# EAGLE library part CL-SB-23A-01 (library switches)
SWITCH SLIDE DP3T 0.2A JLEAD
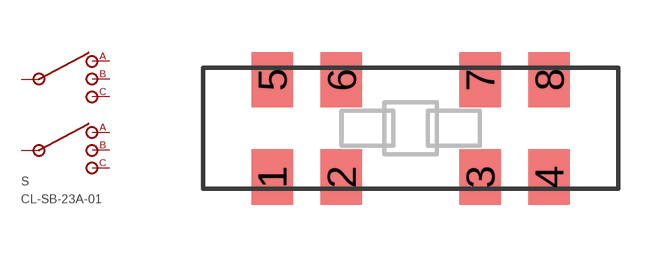
[diagram p1: symbol with the pads of CL-SB-23A; footprint CL-SB-23A]

Designator prefix S

## CL-SB-23A-01 (DIGIKEY: 563-1350-1-ND)  [CL-SB-23A]
1  1
2  2
3  3
4  4
5  5
6  6
7  7
8  8

## Footprint CL-SB-23A (pad centres in mm)
smd 1.2 x 1.6: 1 -4,-1.4; 2 -2,-1.4; 3 2,-1.4; 4 4,-1.4; 5 -4,1.4; 6 -2,1.4; 7 2,1.4; 8 4,1.4